# Altium footprint library AG.Discrete.PcbLib: 7 footprints
Each footprint in its own frame and in the unit in brackets; x right, y up, seen from the top. Pads: shape width x height; smd on the part's side, far side on the other; paste and mask are expansions set on the pad; w line width, h text height; cw(c..) or ccw(c..) is an arc to the next point about the centre after c.
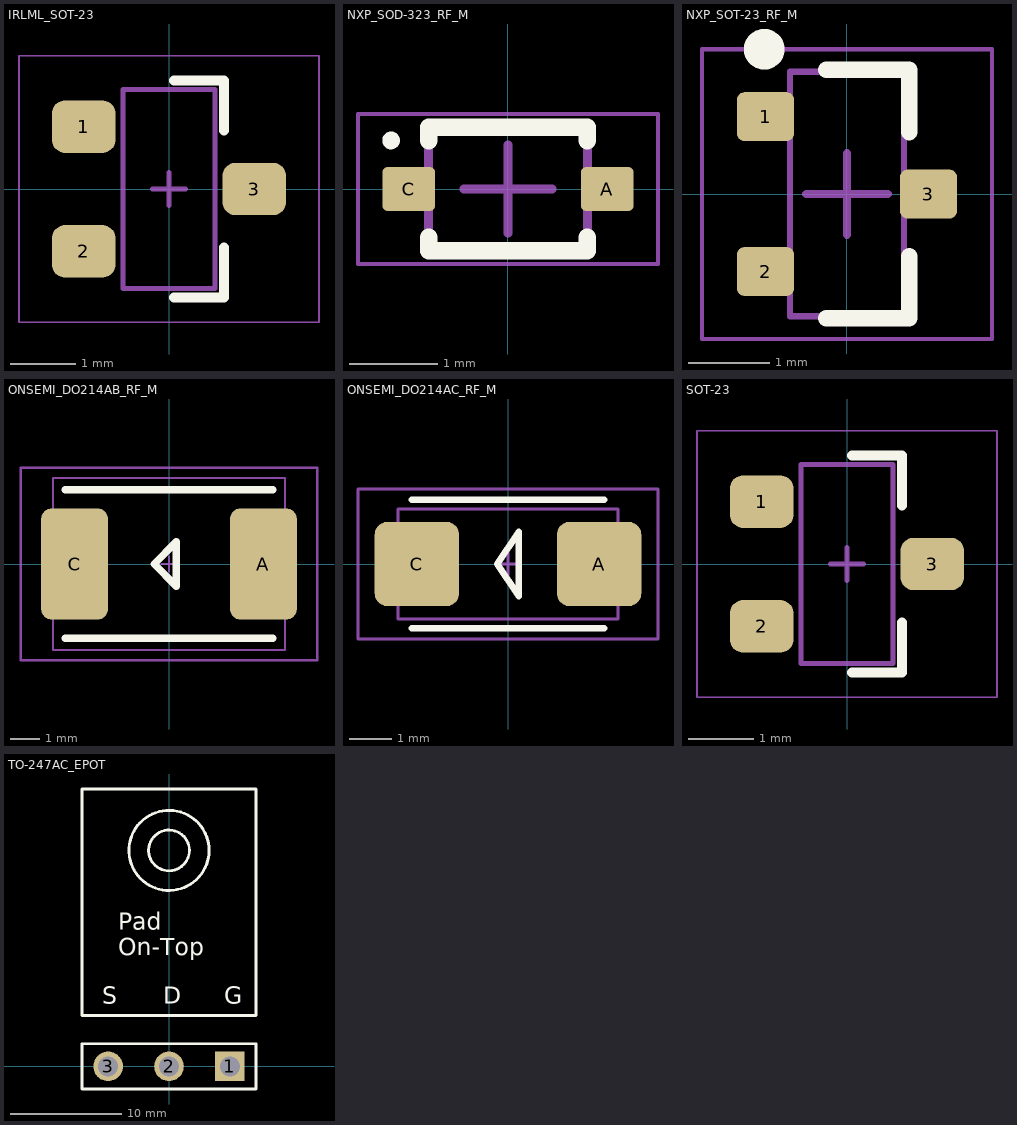
[diagram p0: the footprints below, top view; thin cyan lines are the x and y axes]

## IRLML_SOT-23 [mm] "Infineon's IRLML Series Logic-Level Transistor SOT-23"
height 1.12
pads (3):
  rrect50% 0.97x0.8 smd: 1(-1.3,0.95) 2(-1.3,-0.95) 3(1.3,0)
Top Overlay:
  lines w0.152: 0.076,-1.651 0.838,-1.651 0.838,-0.889 ; 0.076,1.651 0.838,1.651 0.838,0.889
Mechanical 13:
  lines w0.076: -0.7,-1.52 -0.7,1.52 0.7,1.52 0.7,-1.52 -0.7,-1.52
Mechanical 15:
  lines w0.025: -2.286,-2.032 -2.286,2.032 2.286,2.032 2.286,-2.032 -2.286,-2.032
  lines w0.076: -0.254,0 0.254,0 ; 0,-0.254 0,0.254
3D body "SOT-23-127P600-8N.step": height 1.12, standoff 0, extent -1.32,-1.52 1.32,1.52

## NXP_SOD-323_RF_M [mm] "SOD-232 NXP PESD5V0S1BA Reflow"
height 1.1
pads (2):
  rrect25% 0.6x0.5 smd: A(1.125,0) C(-1.125,0)
Top Overlay:
  circle w0.1: c-1.325,0.55 r0.05
  lines w0.2: -0.9,-0.55 -0.9,-0.7 0.9,-0.7 0.9,-0.55 ; -0.9,0.55 -0.9,0.7 0.9,0.7 0.9,0.55
Mechanical 13:
  lines w0.1: -0.9,-0.675 -0.9,0.675 0.9,0.675 0.9,-0.675 -0.9,-0.675
Mechanical 15:
  lines w0.05: -1.7,-0.85 -1.7,0.85 1.7,0.85 1.7,-0.85 -1.7,-0.85
  lines w0.1: -0.5,0 0.5,0 ; 0,-0.5 0,0.5
3D body "cdsod323-t03S.stp": height 0.99, standoff -0.02, extent -1.273,-0.65 1.273,0.65

## NXP_SOT-23_RF_M [mm] "Nexperia SOT-23 (TO-236AB) Reflow Medium Density: Smaller Pads"
height 1.1
pads (3):
  rrect30% 0.7x0.6 smd: 1(-1,0.95) 2(-1,-0.95) 3(1,0)
Top Overlay:
  circle w0.25: c-1.016,1.778 r0.125
  lines w0.203: -0.254,-1.524 0.762,-1.524 0.762,-0.762 ; -0.254,1.524 0.762,1.524 0.762,0.762
Mechanical 13:
  lines w0.076: -0.7,-1.5 -0.7,1.5 0.7,1.5 0.7,-1.5 -0.7,-1.5
Mechanical 15:
  lines w0.051: -1.778,-1.778 -1.778,1.778 1.778,1.778 1.778,-1.778 -1.778,-1.778
  lines w0.102: -0.5,0 0.5,0 ; 0,-0.5 0,0.5
3D body "NXP_SOT-23_RF_M.step": height 1.1, standoff 0, extent -1.3,-1.5 1.3,1.5

## ONSEMI_DO214AB_RF_M [mil] "Diode DO-214AB (SMC)"
height 103
pads (2):
  rrect30% 90x150 smd: A(127.5,0) C(-127.5,0)
Top Overlay:
  lines w10: -140,-100 140,-100 ; -140,100 140,100 ; -20,0 10,30 10,-30 -20,0
Mechanical 13:
  lines w3: -156.49,-116.13 -156.49,116.15 156.5,116.15 156.5,-116.13 -156.49,-116.13
Mechanical 15:
  lines w3: -10,0 10,0 ; 0,-10 0,10 ; -200,-130 200,-130 200,130 -200,130 -200,-130
3D body "MBRS340.STEP": height 103.44, standoff 0.69, extent -156.49,-116.13 156.5,116.15

## ONSEMI_DO214AC_RF_M [mm]
height 2.7
pads (2):
  rrect30% 2x2 smd: A(2.159,0) C(-2.159,0)
Top Overlay:
  lines w0.152: -2.286,-1.524 2.286,-1.524 ; -2.286,1.524 2.286,1.524 ; -0.254,0 0.254,0.762 0.254,-0.762 -0.254,0
Mechanical 13:
  lines w0.076: -2.605,-1.303 -2.605,1.303 2.605,1.303 2.605,-1.303 -2.605,-1.303
Mechanical 15:
  lines w0.076: -0.254,0 0.254,0 ; 0,-0.254 0,0.254 ; -3.556,-1.778 3.556,-1.778 3.556,1.778 -3.556,1.778 -3.556,-1.778
3D body "cd214a-r12000.stp": height 2.3, standoff -0.01, extent -2.605,-1.303 2.605,1.303

## SOT-23 [mm]
height 1.12
pads (3):
  rrect50% 0.97x0.8 smd: 1(-1.3,0.95) 2(-1.3,-0.95) 3(1.3,0)
Top Overlay:
  lines w0.152: 0.076,-1.651 0.838,-1.651 0.838,-0.889 ; 0.076,1.651 0.838,1.651 0.838,0.889
Mechanical 13:
  lines w0.076: -0.7,-1.52 0.7,-1.52 0.7,1.52 -0.7,1.52 -0.7,-1.52
Mechanical 15:
  lines w0.025: -2.286,-2.032 2.286,-2.032 2.286,2.032 -2.286,2.032 -2.286,-2.032
  lines w0.076: -0.254,0 0.254,0 ; 0,-0.254 0,0.254
3D body "SOT-23-127P600-8N.step": height 1.12, standoff 0, extent -1.32,-1.52 1.32,1.52

## TO-247AC_EPOT [mil] "TO-247AC Exposed Pad On-Top (Horizontal)"
height 210
pads (3):
  rect 105x105 hole 70: 1(215,0)
  round 105 hole 70: 2(0,0) 3(-215,0)
Top Overlay:
  circle w10: c0,763 r72
  circle w10: c0,763 r141.5
  lines w10: -307,-80 -307,80 307,80 307,-80 -307,-80 ; -307,180 -307,980 307,980 307,180 -307,180
  text "S" at -235,221 h60
  text "D" at -20,221 h60
  text "G" at 195,221 h60
  text "Pad / On-Top" at -180,392 h60